# Altium footprint library DI_PLCC4.PcbLib: 1 footprints
Each footprint in its own frame and in the unit in brackets; x right, y up, seen from the top. Pads: shape width x height; smd on the part's side, far side on the other; paste and mask are expansions set on the pad; w line width, h text height; cw(c..) or ccw(c..) is an arc to the next point about the centre after c.
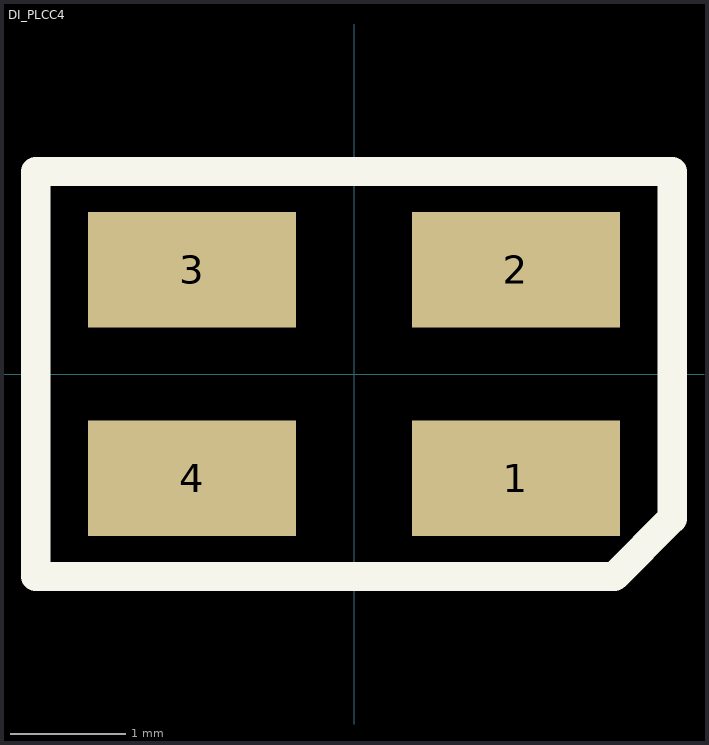
[diagram p0: the footprint, top view; thin cyan lines are the x and y axes]

## DI_PLCC4 [mm] "RGB-LED"
pads (4):
  rect 1.8x1 smd: 1(1.4,-0.9) 2(1.4,0.9) 3(-1.4,0.9) 4(-1.4,-0.9)
Top Overlay:
  lines w0.254: -2.75,-1.75 2.25,-1.75 2.75,-1.25 2.75,1.75 -2.75,1.75 -2.75,-1.75
3D body: height 2, standoff 0, extent -1.8,-1.7 1.8,1.7